# Altium footprint library XTAL.PcbLib: 3 footprints
Each footprint in its own frame and in the unit in brackets; x right, y up, seen from the top. Pads: shape width x height; smd on the part's side, far side on the other; paste and mask are expansions set on the pad; w line width, h text height; cw(c..) or ccw(c..) is an arc to the next point about the centre after c.
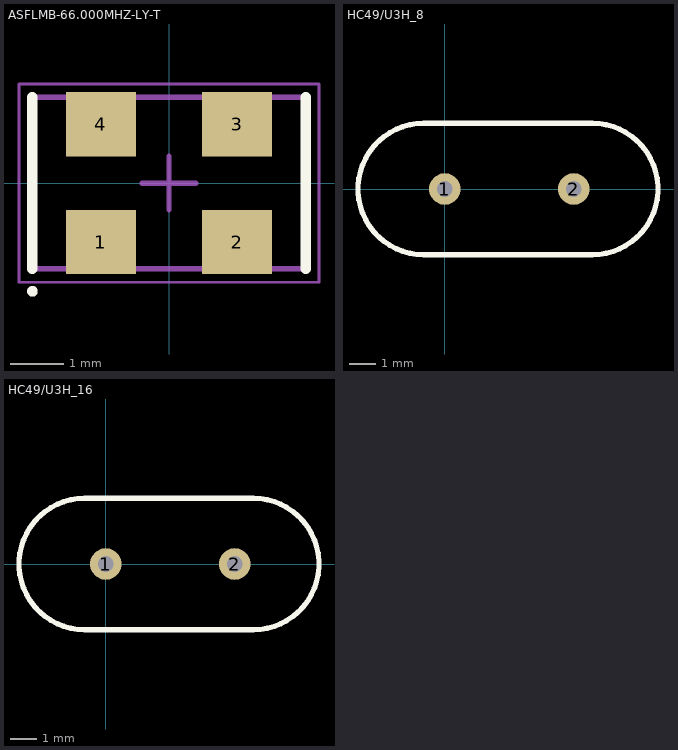
[diagram p0: the footprints below, top view; thin cyan lines are the x and y axes]

## ASFLMB-66.000MHZ-LY-T [mm] "DFN, 4-Leads, Body 3,15x5,00mm, Pitch 2,54mm, IPC Medium Density"
height 0.9
pads (4):
  rect 1.3x1.2 smd: 1(-1.27,-1.1) 2(1.27,-1.1) 3(1.27,1.1) 4(-1.27,1.1)
Top Overlay:
  circle w0.1: c-2.55,-2.02 r0.05
  lines w0.2: -2.55,-1.6 -2.55,1.6 ; 2.55,-1.6 2.55,1.6
Mechanical 13:
  lines w0.1: -2.55,-1.6 2.55,-1.6 2.55,1.6 -2.55,1.6 -2.55,-1.6
Mechanical 15:
  lines w0.05: -2.8,-1.85 2.8,-1.85 2.8,1.85 -2.8,1.85 -2.8,-1.85
  lines w0.1: -0.5,0 0.5,0 ; 0,-0.5 0,0.5
3D body "ASFLMB.STEP": height 0.84, standoff -0.01, extent -2.51,-1.61 2.49,1.59

## HC49/U3H_8 [mm]
height 5
pads (2):
  round 1.2 hole 0.6: 1(0,0) 2(4.9,0)
Top Overlay:
  lines w0.2: 5.6,-2.502 ccw(c5.6,0) 5.6,2.502 ; 5.6,-2.5 -0.8,-2.501 cw(c-0.8,0) -0.8,2.501 5.6,2.5
3D body "User Library-HC-49_LT_THT.step": height 4, standoff -1.59, extent -3.225,-2.315 8.125,2.335

## HC49/U3H_16 [mm]
height 5
pads (2):
  round 1.2 hole 0.6: 1(0,0) 2(4.9,0)
Top Overlay:
  lines w0.2: 5.6,-2.502 ccw(c5.6,0) 5.6,2.502 ; 5.6,-2.5 -0.8,-2.501 cw(c-0.8,0) -0.8,2.501 5.6,2.5
3D body "User Library-HC-49_LT_THT_16MHz.step": height 3.8, standoff -1.79, extent -3.225,-2.335 8.125,2.315